# Altium schematic symbol library prj_l476.SchLib: 37 symbols
Pins are listed as number, name and electrical type; pins without a type are passive.

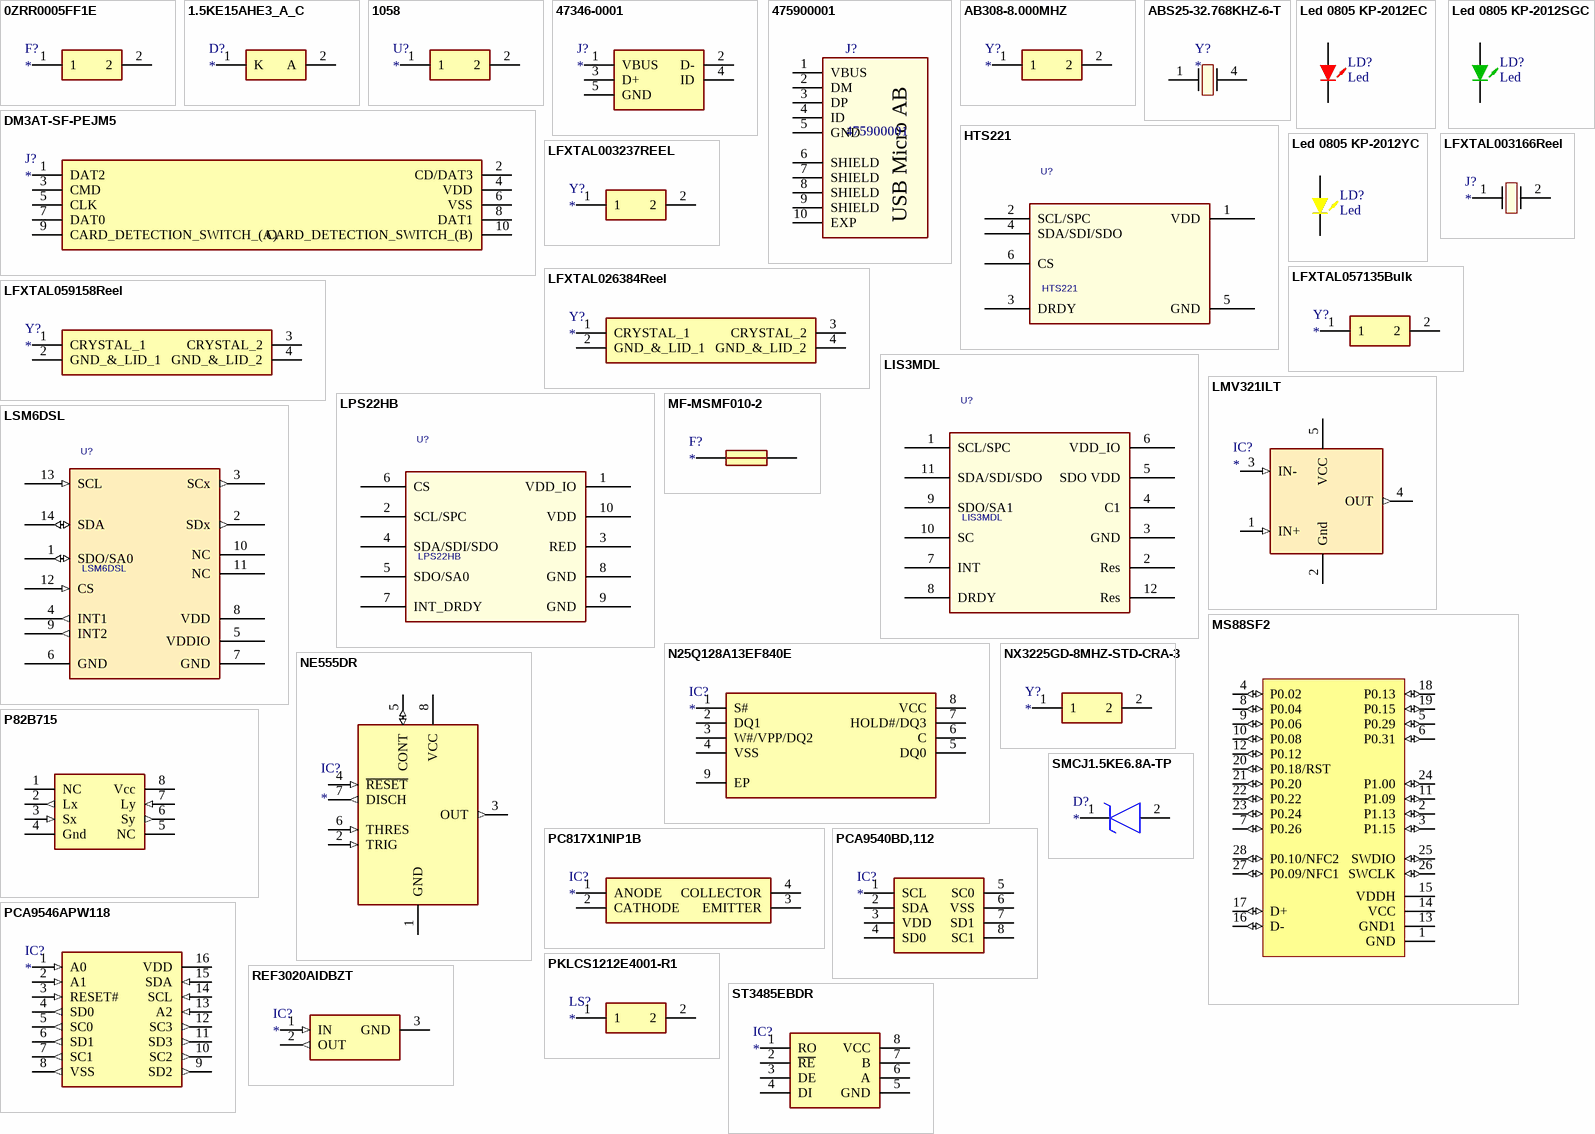
[diagram p0: symbols 0ZRR0005FF1E to ST3485EBDR]

## 0ZRR0005FF1E
designator F?
Fuse; Manufacturer_Name: Bel-Stewart; Manufacturer_Part_Number: 0ZRR0005FF1E; Datasheet Link: https://componentsearchengine.com/Datasheets/1/0ZRR0005FF1E.pdf; Height: 12.7mm; Mouser Part Number: 530-0ZRR0005FF1E; Mouser Price/Stock: https://www.mouser.com/Search/Refine.aspx?Keyword=530-0ZRR0005FF1E
footprint 0ZRR0005FF1E
pins: 1, 2

## 1.5KE15AHE3_A_C
designator D?
TVS Diode (Uni-directional); Manufacturer_Name: Vishay; Manufacturer_Part_Number: 1.5KE15AHE3_A/C; Datasheet Link: https://componentsearchengine.com/Datasheets/1/1.5KE15AHE3_A_C.pdf; Mouser Part Number: 78-1.5KE15AHE3_A/C; Mouser Price/Stock: https://www.mouser.com/Search/Refine.aspx?Keyword=78-1.5KE15AHE3_A%2FC
footprint DIOAD2855W107L835D505
pins: 1 K, 2 A

## 1058
designator U?
Undefined or Miscellaneous; Manufacturer_Name: Keystone Electronics; Manufacturer_Part_Number: 1058; Datasheet Link: https://componentsearchengine.com/Datasheets/1/1058.pdf; Height: 5.08mm; Mouser Part Number: 534-1058; Mouser Price/Stock: https://www.mouser.com/Search/Refine.aspx?Keyword=534-1058
footprint 1058
pins: 1, 2

## 47346-0001
designator J?
Connector; Manufacturer_Name: Molex; Manufacturer_Part_Number: 47346-0001; Datasheet Link: https://componentsearchengine.com/Datasheets/1/47346-0001.pdf; Mouser Part Number: 538-47346-0001; Mouser Price/Stock: https://www.mouser.com/Search/Refine.aspx?Keyword=538-47346-0001
footprint 47346-0001
pins: 1 VBUS, 2 D-, 3 D+, 4 ID, 5 GND

## 475900001
designator J?
USB-MICRO-AB, 47590-0001, SMT, MOLEX
footprint CON_USBMICROAB_MOLEX_47590-0001_H3
pins: 1 VBUS, 2 DM, 3 DP, 4 ID, 5 GND, 6 SHIELD, 7 SHIELD, 8 SHIELD, 9 SHIELD, 10 EXP
text: USB Micro AB

## AB308-8.000MHZ
designator Y?
Crystal or Oscillator; Manufacturer_Name: ABRACON; Manufacturer_Part_Number: AB308-8.000MHZ; Datasheet Link: https://componentsearchengine.com/Datasheets/1/AB308-8.000MHZ.pdf; Height: 9mm; Mouser Part Number: 815-AB308-8.000; Mouser Price/Stock: https://www.mouser.com/Search/Refine.aspx?Keyword=815-AB308-8.000
footprint AB3088000MHZ
pins: 1, 2

## ABS25-32.768KHZ-6-T
designator Y?
Crystal or Oscillator; Manufacturer_Name: ABRACON; Manufacturer_Part_Number: ABS25-32.768KHZ-6-T; Datasheet Link: https://componentsearchengine.com/Datasheets/1/ABS25-32.768KHZ-6-T.pdf; Mouser Part Number: 815-ABS25-32.768K6-T; Mouser Price/Stock: https://www.mouser.com/Search/Refine.aspx?Keyword=815-ABS25-32.768K6-T
footprint ABS25
pins: 1 (hiz), 4

## DM3AT-SF-PEJM5
designator J?
Connector; Manufacturer_Name: Hirose; Manufacturer_Part_Number: DM3AT-SF-PEJM5; Datasheet Link: https://componentsearchengine.com/Datasheets/1/DM3AT-SF-PEJM5.pdf; Mouser Part Number: 798-DM3AT-SF-PEJM5; Mouser Price/Stock: https://www.mouser.com/Search/Refine.aspx?Keyword=798-DM3AT-SF-PEJM5
footprint DM3AT-SF-PEJM5_1
pins: 1 DAT2, 2 CD/DAT3, 3 CMD, 4 VDD, 5 CLK, 6 VSS, 7 DAT0, 8 DAT1, 9 CARD_DETECTION_SWITCH_(A), 10 CARD_DETECTION_SWITCH_(B)

## HTS221
designator U?
Capacitive digital sensor for relative humidity and temperature; Supplier Part Number: HTS221; Value: HTS221; RoHS: RoHS Compliant; Supplier Device Package: HLGA-6L
footprint HLGA6L-2x2x0.9 (HLGA6L 2x2x0.9mm pitch1mm)
pins: 1 VDD, 2 SCL/SPC, 3 DRDY, 4 SDA/SDI/SDO, 5 GND, 6 CS

## Led 0805 KP-2012EC
designator LD?, comment Led
Red  627nm 12mcd; Price: 0.09
footprint Led 0805-Red
pins: 1 A, 2 K
1 alternate drawing of the same symbol

## Led 0805 KP-2012SGC
designator LD?, comment Led
Green 565nm 15mcd; Price: 0.09
footprint Led 0805-Green
pins: 1 A, 2 K
1 alternate drawing of the same symbol

## Led 0805 KP-2012YC
designator LD?, comment Led
Yellow 590nm 8mcd; Price: 0.09
footprint Led 0805-Yellow
pins: 1 A, 2 K
1 alternate drawing of the same symbol

## LFXTAL003166Reel
designator J?
Connector; Manufacturer_Name: IQD; Manufacturer_Part_Number: LFXTAL003166Reel; Datasheet Link: https://componentsearchengine.com/Datasheets/1/LFXTAL003166Reel.pdf; Height: 4.3mm; Mouser Part Number: 449-LFXTAL003166REEL; Mouser Price/Stock: https://www.mouser.com/Search/Refine.aspx?Keyword=449-LFXTAL003166REEL
footprint LFXTAL003166Reel
pins: 1, 2

## LFXTAL003237REEL
designator Y?
Crystal or Oscillator; Manufacturer_Name: IQD; Manufacturer_Part_Number: LFXTAL003237REEL; Datasheet Link: https://componentsearchengine.com/Datasheets/1/LFXTAL003237Reel.pdf; Mouser Part Number: 449-LFXTAL003237REEL; Mouser Price/Stock: https://www.mouser.com/Search/Refine.aspx?Keyword=449-LFXTAL003237REEL
footprint HC49/4HSMX_1
pins: 1, 2

## LFXTAL026384Reel
designator Y?
Crystal or Oscillator; Manufacturer_Name: IQD; Manufacturer_Part_Number: LFXTAL026384Reel; Datasheet Link: https://componentsearchengine.com/Datasheets/1/LFXTAL026384Reel.pdf; Height: 1.4mm; Mouser Part Number: 449-LFXTAL026384REEL; Mouser Price/Stock: https://www.mouser.com/Search/Refine.aspx?Keyword=449-LFXTAL026384REEL
footprint CON_USBMICROAB_MOLEX_47590-0001_H3
pins: 1 CRYSTAL_1, 2 GND_&_LID_1, 3 CRYSTAL_2, 4 GND_&_LID_2

## LFXTAL057135Bulk
designator Y?
Crystal or Oscillator; Manufacturer_Name: IQD; Manufacturer_Part_Number: LFXTAL057135Bulk; Datasheet Link: https://componentsearchengine.com/Datasheets/1/LFXTAL057135Bulk.pdf; Height: 4.1mm; Mouser Part Number: 449-LFXTAL057135BULK; Mouser Price/Stock: https://www.mouser.com/Search/Refine.aspx?Keyword=449-LFXTAL057135BULK
footprint LFXTAL057135Bulk
pins: 1, 2

## LFXTAL059158Reel
designator Y?
Crystal or Oscillator; Manufacturer_Name: IQD; Manufacturer_Part_Number: LFXTAL059158Reel; Datasheet Link: https://componentsearchengine.com/Datasheets/1/LFXTAL059158Reel.pdf; Height: 1mm; Mouser Part Number: 449-LFXTAL059158REEL; Mouser Price/Stock: https://www.mouser.com/Search/Refine.aspx?Keyword=449-LFXTAL059158REEL
footprint LFXTAL030819Bulk
pins: 1 CRYSTAL_1, 2 GND_&_LID_1, 3 CRYSTAL_2, 4 GND_&_LID_2

## LIS3MDL
designator U?
Magnetic sensor MEMS (3 Axis); Supplier Part Number: LIS3MDL; Value: LIS3MDL; RoHS: RoHS Compliant; Supplier Device Package: LGA12
footprint LGA12 2x2x1mm
pins: 1 SCL/SPC, 2 Res, 3 GND, 4 C1, 5 SDO VDD, 6 VDD_IO, 7 INT, 8 DRDY, 9 SDO/SA1, 10 SC, 11 SDA/SDI/SDO, 12 Res

## LMV321ILT
designator IC?
Integrated Circuit; Manufacturer_Name: STMicroelectronics; Manufacturer_Part_Number: LMV321ILT; Datasheet Link: https://componentsearchengine.com/Datasheets/1/LMV321ILT.pdf; Height: 1.45mm; Mouser Part Number: 511-LMV321ILT; Mouser Price/Stock: https://www.mouser.com/Search/Refine.aspx?Keyword=511-LMV321ILT
footprint SOT95P280X145-5N
pins: 1 IN+ (in), 2 Gnd (power), 3 IN- (in), 4 OUT (out), 5 VCC (power)

## LPS22HB
designator U?
MEMS nano pressure/temp sensor; Supplier Part Number: LPS22HB; Value: LPS22HB; RoHS: RoHS Compliant; Supplier Device Package: HLGA-10L
footprint HLGA10L-2X2X0.76 (Name Type Description Vault Item Revision Revision Status    HLGA10L-2X2X0.76 Footprint HLGA-10L 2x2x0.76mm pitch 0.5mm)
pins: 1 VDD_IO, 2 SCL/SPC, 3 RED, 4 SDA/SDI/SDO, 5 SDO/SA0, 6 CS, 7 INT_DRDY, 8 GND, 9 GND, 10 VDD

## LSM6DSL
designator U?
Accelero + Gyro MEMS (6 Axis); Supplier Part Number: LSM6DSL; RoHS: RoHS Compliant; Supplier Device Package: LGA14; Value: LSM6DSL
footprint LGA14L-2.5X3X0.86p0.5 (LGA14 2.5x3x0.86mm pitch0.5mm)
pins: 1 SDO/SA0 (io), 2 SDx (out), 3 SCx (out), 4 INT1 (out), 5 VDDIO (power), 6 GND (power), 7 GND (power), 8 VDD (power), 9 INT2 (out), 10 NC, 11 NC, 12 CS (in), 13 SCL (in), 14 SDA (io)

## MF-MSMF010-2
designator F?
Fuse; Manufacturer_Name: Bourns; Manufacturer_Part_Number: MF-MSMF010-2; Datasheet Link: https://componentsearchengine.com/Datasheets/1/MF-MSMF010-2.pdf; Height: 1.1mm; Mouser Part Number: 652-MF-MSMF010-2; Mouser Price/Stock: https://www.mouser.com/Search/Refine.aspx?Keyword=652-MF-MSMF010-2
footprint FUSC4632X110N
pins: 1, 2

## MS88SF2
designator U?
Manufacturer: Texas Instruments; PartNumber: SN65HVD11SHKJ; Eco-Plan: Green (RoHS & no Sb/Br); SubFamily: RS-485; # of TX/RX: 1 TX / 1 RX; Drivers Per Package: 1; Isolated: No; Number of Nodes: 256; Duplex: Half; Signaling Rate(Mbps): 10; Common Mode Range: -7 to 12; ESD(kV): 16; Fault Protection(V): -9 to 14; Fail Safe: Open, Short; ICC(Max)(mA): 18; Supply Voltage(s)(V): 3.3; Rating: High Temp; DatasheetVersion: SLLS934D; PackageVersion: revA, Oct-2008; PackageReference: HKJ8; PackageDescription: 8-Lead Ceramic Dual Flatpack, Body 7.3 x 5.9 mm (LxW max), Pitch 1.27 mm; Receivers Per Package: 1; Footprint: SN75176; Mounting Technology: Surface Mount; ComponentLink1Description: Datasheet; ComponentLink1URL: http://www.ti.com/general/docs/lit/getliterature.tsp?genericPartNumber=SN65HVD11-HT&fileType=pdf; ComponentLink2Description: Package Specification; ComponentLink2URL: http://www.ti.com/litv/pdf/msoi002j
footprint MS88SF2 (Chip Array, Flat, 28-Leads, Pitch 1,10mm,  Body 17,40x17,40mm,  IPC Medium Density)
pins: 1 GND (power), 2 P1.13 (io), 3 P1.15 (io), 4 P0.02 (io), 5 P0.29 (io), 6 P0.31 (io), 7 P0.26 (io), 8 P0.04 (io), 9 P0.06 (io), 10 P0.08 (io), 11 P1.09 (io), 12 P0.12 (io), 13 GND1 (power), 14 VCC (power), 15 VDDH (power), 16 D- (io), 17 D+ (io), 18 P0.13 (io), 19 P0.15 (io), 20 P0.18/RST (io), 21 P0.20 (io), 22 P0.22 (io), 23 P0.24 (io), 24 P1.00 (io), 25 SWDIO (io), 26 SWCLK (io), 27 P0.09/NFC1 (io), 28 P0.10/NFC2 (io)

## N25Q128A13EF840E
designator IC?
Integrated Circuit; Manufacturer_Name: Micron; Manufacturer_Part_Number: N25Q128A13EF840E; Datasheet Link: https://componentsearchengine.com/Datasheets/1/N25Q128A13EF840E.pdf; Height: 1mm; Mouser Part Number: 340-182262; Mouser Price/Stock: https://www.mouser.com/Search/Refine.aspx?Keyword=340-182262
footprint SON127P800X600X100-9N-D
pins: 1 S#, 2 DQ1, 3 W#/VPP/DQ2, 4 VSS, 5 DQ0, 6 C, 7 HOLD#/DQ3, 8 VCC, 9 EP

## NE555DR
designator IC?
Integrated Circuit; Manufacturer_Name: Texas Instruments; Manufacturer_Part_Number: NE555DR; Datasheet Link: http://www.ti.com/lit/ds/symlink/ne555.pdf; Height: 1.75mm; Mouser Part Number: 595-NE555DR; Mouser Price/Stock: https://www.mouser.com/Search/Refine.aspx?Keyword=595-NE555DR; RS Part Number: 1218414; RS Price/Stock: http://uk.rs-online.com/web/p/products/1218414
footprint SOIC127P600X175-8N
pins: 1 GND (power), 2 TRIG (in), 3 OUT (out), 4 ~{RESET} (in), 5 CONT (io), 6 THRES (in), 7 DISCH (out), 8 VCC (power)

## NX3225GD-8MHZ-STD-CRA-3
designator Y?
Crystal or Oscillator; Manufacturer_Name: NDK; Manufacturer_Part_Number: NX3225GD-8MHZ-STD-CRA-3; Datasheet Link: https://componentsearchengine.com/Datasheets/1/NX3225GD-8MHZ-STD-CRA-3.pdf; Height: 1mm; Mouser Part Number: 344-NX3225GD8MCRA3; Mouser Price/Stock: https://www.mouser.com/Search/Refine.aspx?Keyword=344-NX3225GD8MCRA3
footprint RESC3226X100N
pins: 1, 2

## P82B715
designator U?
Manufacturer: Texas Instruments; PartNumber: SN65HVD11SHKJ; Eco-Plan: Green (RoHS & no Sb/Br); SubFamily: RS-485; # of TX/RX: 1 TX / 1 RX; Drivers Per Package: 1; Isolated: No; Number of Nodes: 256; Duplex: Half; Signaling Rate(Mbps): 10; Common Mode Range: -7 to 12; ESD(kV): 16; Fault Protection(V): -9 to 14; Fail Safe: Open, Short; ICC(Max)(mA): 18; Supply Voltage(s)(V): 3.3; Rating: High Temp; DatasheetVersion: SLLS934D; PackageVersion: revA, Oct-2008; PackageReference: HKJ8; PackageDescription: 8-Lead Ceramic Dual Flatpack, Body 7.3 x 5.9 mm (LxW max), Pitch 1.27 mm; Receivers Per Package: 1; Footprint: SN75176; Mounting Technology: Surface Mount; ComponentLink1Description: Datasheet; ComponentLink2Description: Package Specification
footprint SOIC-8
pins: 1 NC, 2 Lx (out), 3 Sx (in), 4 Gnd, 5 NC, 6 Sy (out), 7 Ly (in), 8 Vcc

## PC817X1NIP1B
designator IC?
Integrated Circuit; Manufacturer_Name: Sharp Microelectronics; Manufacturer_Part_Number: PC817X1NIP1B; Datasheet Link: https://componentsearchengine.com/Datasheets/1/PC817X1NIP1B.pdf; Height: 4.2mm; Mouser Part Number: 852-PC817X1NIP1B; Mouser Price/Stock: https://www.mouser.com/Search/Refine.aspx?Keyword=852-PC817X1NIP1B
footprint SOP254P960X420-4N
pins: 1 ANODE, 2 CATHODE, 3 EMITTER, 4 COLLECTOR

## PCA9540BD,112
designator IC?
Integrated Circuit; Manufacturer_Name: Nexperia; Manufacturer_Part_Number: PCA9540BD,112; Datasheet Link: https://componentsearchengine.com/Datasheets/1/PCA9540BD,112.pdf; Mouser Part Number: 771-PCA9540BD112; Mouser Price/Stock: https://www.mouser.com/Search/Refine.aspx?Keyword=771-PCA9540BD112
footprint SOIC127P600X175-8N
pins: 1 SCL, 2 SDA, 3 VDD, 4 SD0, 5 SC0, 6 VSS, 7 SD1, 8 SC1

## PCA9546APW118
designator IC?
Integrated Circuit; Manufacturer_Name: Nexperia; Manufacturer_Part_Number: PCA9546APW,118; Datasheet Link: https://componentsearchengine.com/Datasheets/1/PCA9546APW,118.pdf; Mouser Part Number: 771-PCA9546APW-T; Mouser Price/Stock: https://www.mouser.com/Search/Refine.aspx?Keyword=771-PCA9546APW-T
footprint SOP65P640X110-16N
pins: 1 A0 (in), 2 A1 (in), 3 RESET# (in), 4 SD0 (out), 5 SC0 (out), 6 SD1 (out), 7 SC1 (out), 8 VSS (out), 9 SD2 (out), 10 SC2 (out), 11 SD3 (out), 12 SC3 (out), 13 A2 (in), 14 SCL (in), 15 SDA (in), 16 VDD (power)

## PKLCS1212E4001-R1
designator LS?
Loudspeaker or Buzzer; Manufacturer_Name: Murata Electronics; Manufacturer_Part_Number: PKLCS1212E4001-R1; Datasheet Link: https://componentsearchengine.com/Datasheets/1/PKLCS1212E4001-R1.pdf; Mouser Part Number: 81-PKLCS1212E4001; Mouser Price/Stock: https://www.mouser.com/Search/Refine.aspx?Keyword=81-PKLCS1212E4001
footprint PKLCS1212E4001
pins: 1, 2

## REF3020AIDBZT
designator IC?
Integrated Circuit; Manufacturer_Name: Texas Instruments; Manufacturer_Part_Number: REF3020AIDBZT; Datasheet Link: http://www.ti.com/lit/ds/symlink/ref3020.pdf; Height: 1.12mm; Mouser Part Number: 595-REF3020AIDBZT; Mouser Price/Stock: https://www.mouser.com/Search/Refine.aspx?Keyword=595-REF3020AIDBZT
footprint SOT95P237X112-3N
pins: 1 IN (in), 2 OUT (out), 3 GND (power)

## SMCJ1.5KE6.8A-TP
designator D?
TVS Diode (Uni-directional); Manufacturer_Name: Micro Commercial Components (MCC); Manufacturer_Part_Number: SMCJ1.5KE6.8A-TP; Datasheet Link: https://componentsearchengine.com/Datasheets/1/SMCJ1.5KE6.8A-TP.pdf; Height: 2.62mm; Mouser Part Number: 833-SMCJ1.5KE6.8A-TP; Mouser Price/Stock: https://www.mouser.com/Search/Refine.aspx?Keyword=833-SMCJ1.5KE6.8A-TP
footprint DIOM7959X262N
pins: 1 K, 2 A

## ST3485EBDR
designator IC?
Integrated Circuit; Manufacturer_Name: STMicroelectronics; Manufacturer_Part_Number: ST3485EBDR; Datasheet Link: https://componentsearchengine.com/Datasheets/1/ST3485EBDR.pdf; Height: 1.75mm; Mouser Part Number: 511-ST3485EBDR; Mouser Price/Stock: https://www.mouser.com/Search/Refine.aspx?Keyword=511-ST3485EBDR
footprint SOIC127P600X175-8N
pins: 1 RO, 2 ~{RE}, 3 DE, 4 DI, 5 GND, 6 A, 7 B, 8 VCC

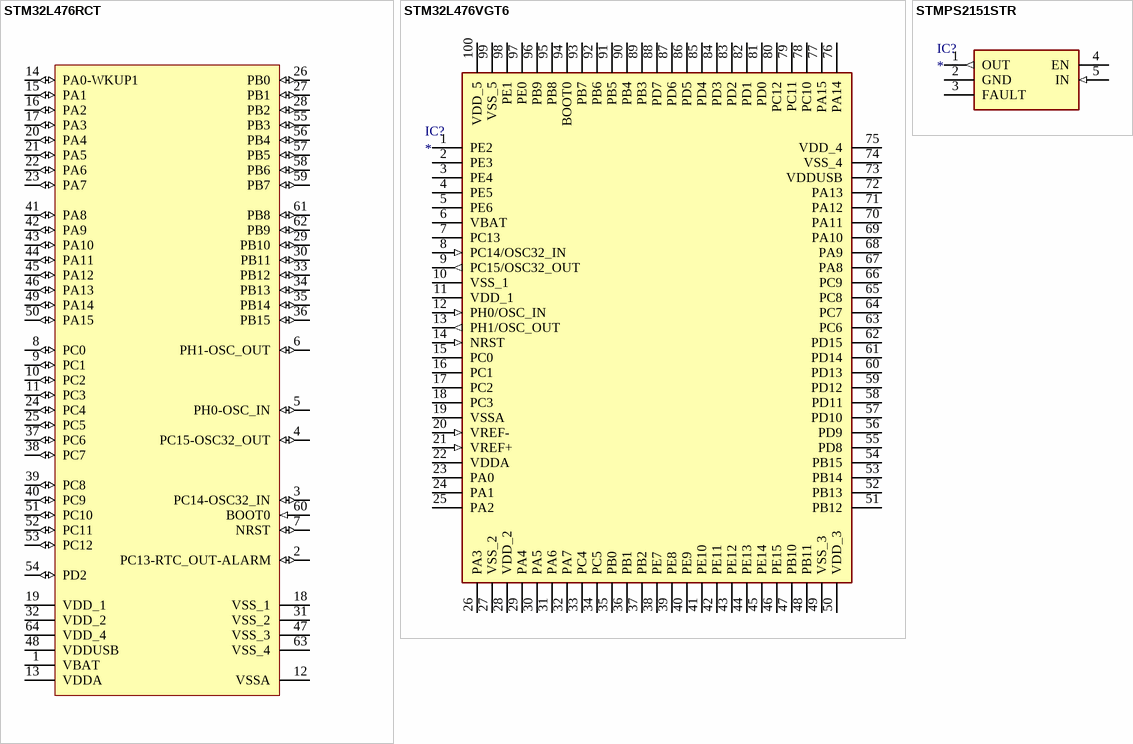
[diagram p1: symbols STM32L476RCT to STMPS2151STR]

## STM32L476RCT
designator U?
Manufacturer: Texas Instruments; PartNumber: SN65HVD11SHKJ; Eco-Plan: Green (RoHS & no Sb/Br); SubFamily: RS-485; # of TX/RX: 1 TX / 1 RX; Drivers Per Package: 1; Isolated: No; Number of Nodes: 256; Duplex: Half; Signaling Rate(Mbps): 10; Common Mode Range: -7 to 12; ESD(kV): 16; Fault Protection(V): -9 to 14; Fail Safe: Open, Short; ICC(Max)(mA): 18; Supply Voltage(s)(V): 3.3; Rating: High Temp; DatasheetVersion: SLLS934D; PackageVersion: revA, Oct-2008; PackageReference: HKJ8; PackageDescription: 8-Lead Ceramic Dual Flatpack, Body 7.3 x 5.9 mm (LxW max), Pitch 1.27 mm; Receivers Per Package: 1; Footprint: SN75176; Mounting Technology: Surface Mount; ComponentLink1Description: Datasheet; ComponentLink1URL: http://www.ti.com/general/docs/lit/getliterature.tsp?genericPartNumber=SN65HVD11-HT&fileType=pdf; ComponentLink2Description: Package Specification; ComponentLink2URL: http://www.ti.com/litv/pdf/msoi002j
footprint LQFP64_N (Thin QFP, 64-Leads, Body 10x10mm, Pitch 0.5mm, IPC Medium Density)
pins: 1 VBAT (power) "Connect to VDD", 2 PC13-RTC_OUT-ALARM (io), 3 PC14-OSC32_IN (io), 4 PC15-OSC32_OUT (io), 5 PH0-OSC_IN (io), 6 PH1-OSC_OUT (io), 7 NRST (io), 8 PC0 (io), 9 PC1 (io), 10 PC2 (io), 11 PC3 (io), 12 VSSA (power), 13 VDDA (power), 14 PA0-WKUP1 (io), 15 PA1 (io), 16 PA2 (io), 17 PA3 (io), 18 VSS_1 (power), 19 VDD_1 (power), 20 PA4 (io), 21 PA5 (io), 22 PA6 (io), 23 PA7 (io), 24 PC4 (io), 25 PC5 (io), 26 PB0 (io), 27 PB1 (io), 28 PB2 (io), 29 PB10 (io), 30 PB11 (io), 31 VSS_2 (power), 32 VDD_2 (power), 33 PB12 (io), 34 PB13 (io), 35 PB14 (io), 36 PB15 (io), 37 PC6 (io), 38 PC7 (io), 39 PC8 (io), 40 PC9 (io), 41 PA8 (io), 42 PA9 (io), 43 PA10 (io), 44 PA11 (io), 45 PA12 (io), 46 PA13 (io), 47 VSS_3 (power), 48 VDDUSB (power), 49 PA14 (io), 50 PA15 (io), 51 PC10 (io), 52 PC11 (io), 53 PC12 (io), 54 PD2 (io), 55 PB3 (io), 56 PB4 (io), 57 PB5 (io), 58 PB6 (io), 59 PB7 (io), 60 BOOT0 (in), 61 PB8 (io), 62 PB9 (io), 63 VSS_4 (power), 64 VDD_4 (power)

## STM32L476VGT6
designator IC?
Integrated Circuit; Manufacturer_Name: STMicroelectronics; Manufacturer_Part_Number: STM32L476VGT6; Datasheet Link: https://componentsearchengine.com/Datasheets/1/STM32L476VGT6.pdf; Height: 1.6mm; Mouser Part Number: 511-STM32L476VGT6; Mouser Price/Stock: https://www.mouser.com/Search/Refine.aspx?Keyword=511-STM32L476VGT6
footprint QFP50P1600X1600X160-100N
pins: 1 PE2, 2 PE3, 3 PE4, 4 PE5, 5 PE6, 6 VBAT, 7 PC13, 8 PC14/OSC32_IN (in), 9 PC15/OSC32_OUT (out), 10 VSS_1 (power), 11 VDD_1 (power), 12 PH0/OSC_IN (in), 13 PH1/OSC_OUT (out), 14 NRST (in), 15 PC0, 16 PC1, 17 PC2, 18 PC3, 19 VSSA (power), 20 VREF- (in), 21 VREF+ (in), 22 VDDA (power), 23 PA0, 24 PA1, 25 PA2, 26 PA3, 27 VSS_2 (power), 28 VDD_2 (power), 29 PA4, 30 PA5, 31 PA6, 32 PA7, 33 PC4, 34 PC5, 35 PB0, 36 PB1, 37 PB2, 38 PE7, 39 PE8, 40 PE9, 41 PE10, 42 PE11, 43 PE12, 44 PE13, 45 PE14, 46 PE15, 47 PB10, 48 PB11, 49 VSS_3 (power), 50 VDD_3 (power), 51 PB12, 52 PB13, 53 PB14, 54 PB15, 55 PD8, 56 PD9, 57 PD10, 58 PD11, 59 PD12, 60 PD13, 61 PD14, 62 PD15, 63 PC6, 64 PC7, 65 PC8, 66 PC9, 67 PA8, 68 PA9, 69 PA10, 70 PA11, 71 PA12, 72 PA13, 73 VDDUSB (power), 74 VSS_4 (power), 75 VDD_4 (power), 76 PA14, 77 PA15, 78 PC10, 79 PC11, 80 PC12, 81 PD0, 82 PD1, 83 PD2, 84 PD3, 85 PD4, 86 PD5, 87 PD6, 88 PD7, 89 PB3, 90 PB4, 91 PB5, 92 PB6, 93 PB7, 94 BOOT0, 95 PB8, 96 PB9, 97 PE0, 98 PE1, 99 VSS_5 (power), 100 VDD_5 (power)

## STMPS2151STR
designator IC?
Integrated Circuit; Manufacturer_Name: STMicroelectronics; Manufacturer_Part_Number: STMPS2151STR; Datasheet Link: https://componentsearchengine.com/Datasheets/1/STMPS2151STR.pdf; Height: 1.45mm; Mouser Part Number: 511-STMPS2151STR; Mouser Price/Stock: https://www.mouser.com/Search/Refine.aspx?Keyword=511-STMPS2151STR
footprint SOT95P280X145-5N
pins: 1 OUT (out), 2 GND (power), 3 FAULT, 4 EN, 5 IN (in)